# Altium schematic symbol library ADG1604.Schlib: 1 symbol
Pins are listed as number, name and electrical type; pins without a type are passive.

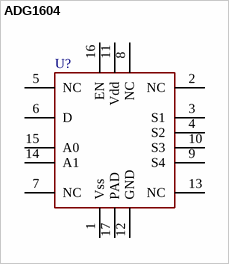
[diagram p0: symbol ADG1604]

## ADG1604
designator U?
pins: 1 Vss, 2 NC, 3 S1, 4 S2, 5 NC, 6 D, 7 NC, 8 NC, 9 S4, 10 S3, 11 Vdd, 12 GND, 13 NC, 14 A1, 15 A0, 16 EN, 17 PAD
1 alternate drawing of the same symbol